# EAGLE library part TOP-CA-788BS (library h8-optic)
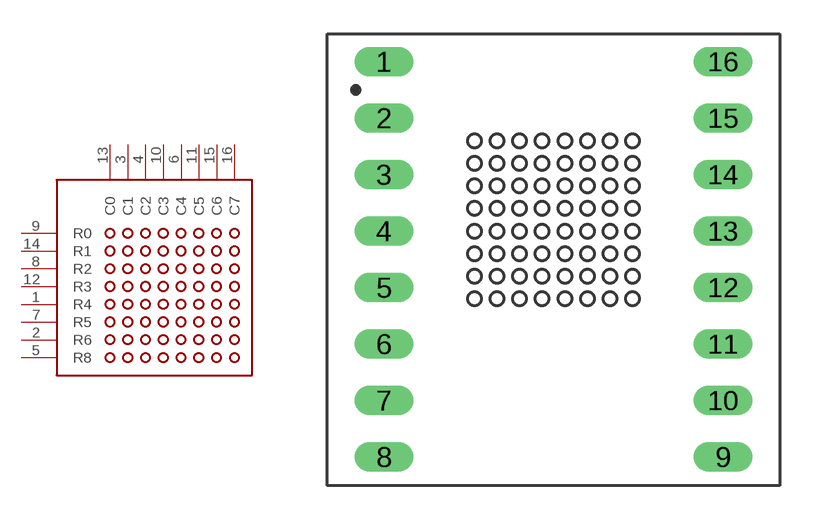
[diagram p0: symbol with the pads of TOP-CA-788BS; footprint TOP-CA-788BS]

Designator prefix -

## TOP-CA-788BS  [TOP-CA-788BS]
1  R4
2  R6
3  C1
4  C2
5  R8
6  C4
7  R5
8  R2
9  R0
10  C3
11  C5
12  R3
13  C0
14  R1
15  C6
16  C7

## Footprint TOP-CA-788BS (pad centres in mm)
Created by Hans Achterbahn (https://github.com/HansAchterbahn)
drill 0.8 long: 1 0,0; 2 0,-2.5; 3 0,-5; 4 0,-7.5; 5 0,-10; 6 0,-12.5; 7 0,-15; 8 0,-17.5; 9 15,-17.5; 10 15,-15; 11 15,-12.5; 12 15,-10; 13 15,-7.5; 14 15,-5; 15 15,-2.5; 16 15,0